# Altium footprint library Display.PcbLib: 3 footprints
Each footprint in its own frame and in the unit in brackets; x right, y up, seen from the top. Pads: shape width x height; smd on the part's side, far side on the other; paste and mask are expansions set on the pad; w line width, h text height; cw(c..) or ccw(c..) is an arc to the next point about the centre after c.
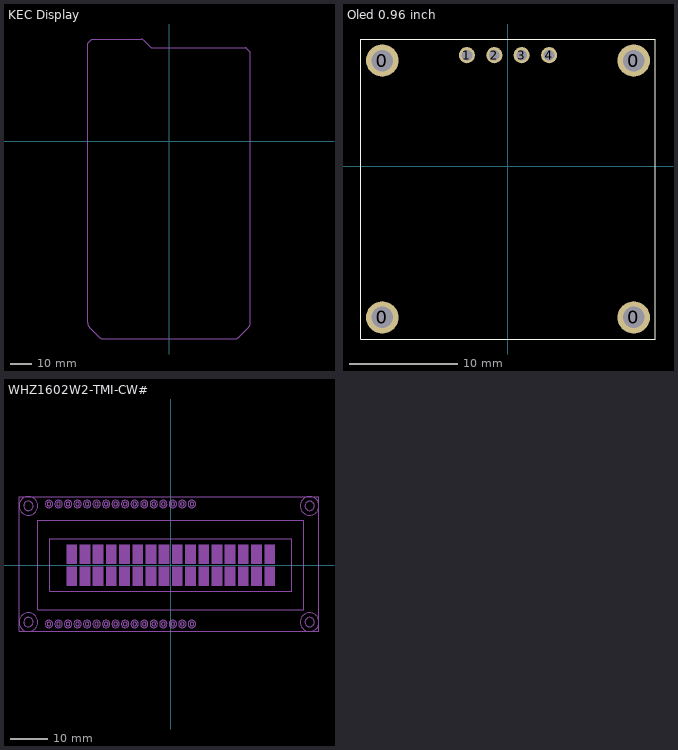
[diagram p0: the footprints below, top view; thin cyan lines are the x and y axes]

## KEC Display [mm]
top_mekanik_malzeme (Mech5):
  lines w0.2: 38.55,-85.8 cw(c35.484,-85.8) 37.652,-87.968 33.964,-91.656 32.968,-92.652 cw(c30.8,-90.484) 30.8,-93.55 -30.8,-93.55 cw(c-30.8,-90.484) -32.968,-92.652 -37.652,-87.968 cw(c-35.484,-85.8) -38.55,-85.8 -38.55,46.523 -36.55,48.523 ; 38.55,-85.747 38.55,42.22 36.55,44.22 ccw(c36.182,43.852) 36.182,44.372 -7.868,44.372 cw(c-7.868,45.83) -8.899,44.799 -12.313,48.213 ccw(c-13.063,47.462) -13.063,48.524 -36.55,48.524 ; -36.55,48.523 ccw(c-36.55,48.524) -36.55,48.523
3D body "KE2_LCD.step": height 24.5, standoff 10.23, extent -38.55,-93.484 39.651,48.524

## Oled 0.96 inch [mm]
pads (8):
  round 3 hole 2: 0(-11.65,-14) 0(-11.65,9.8) 0(11.65,-14) 0(11.65,9.8)
  round 1.5 hole 1: 1(-3.81,10.3) 2(-1.27,10.3) 3(1.27,10.3) 4(3.81,10.3)
Top Overlay:
  lines w0.1: -13.65,-16 -13.65,11.8 13.65,11.8 13.65,-16 -13.65,-16
3D body "OLED 128x64 0 96 inch.step": height 5.35, standoff -6.55, extent -13.65,-16 13.65,11.8

## WHZ1602W2-TMI-CW# [mm]
top_mekanik_malzeme (Mech5):
  circle w0.1: c-37.95,15.825 r2.5
  circle w0.1: c5.65,16.325 r0.5
  circle w0.1: c3.11,16.325 r0.5
  circle w0.1: c0.57,16.325 r0.5
  circle w0.1: c-1.97,16.325 r0.5
  circle w0.1: c-4.51,16.325 r0.5
  circle w0.1: c-7.05,16.325 r0.5
  circle w0.1: c-9.59,16.325 r0.5
  circle w0.1: c-12.13,16.325 r0.5
  circle w0.1: c-14.67,16.325 r0.5
  circle w0.1: c-17.21,16.325 r0.5
  circle w0.1: c-19.75,16.325 r0.5
  circle w0.1: c-22.29,16.325 r0.5
  circle w0.1: c-24.83,16.325 r0.5
  circle w0.1: c-27.37,16.325 r0.5
  circle w0.1: c-29.91,16.325 r0.5
  circle w0.1: c-32.45,16.325 r0.5
  circle w0.1: c-37.95,15.825 r1.25
  circle w0.1: c37.05,15.825 r1.25
  circle w0.1: c37.05,15.825 r2.5
  circle w0.1: c37.05,-15.175 r1.25
  circle w0.1: c37.05,-15.175 r2.5
  circle w0.1: c-37.95,-15.175 r1.25
  circle w0.1: c-37.95,-15.175 r2.5
  circle w0.1: c-32.45,-15.675 r0.5
  circle w0.1: c-29.91,-15.675 r0.5
  circle w0.1: c-27.37,-15.675 r0.5
  circle w0.1: c-24.83,-15.675 r0.5
  circle w0.1: c-22.29,-15.675 r0.5
  circle w0.1: c-19.75,-15.675 r0.5
  circle w0.1: c-17.21,-15.675 r0.5
  circle w0.1: c-14.67,-15.675 r0.5
  circle w0.1: c-12.13,-15.675 r0.5
  circle w0.1: c-9.59,-15.675 r0.5
  circle w0.1: c-7.05,-15.675 r0.5
  circle w0.1: c-4.51,-15.675 r0.5
  circle w0.1: c-1.97,-15.675 r0.5
  circle w0.1: c0.57,-15.675 r0.5
  circle w0.1: c3.11,-15.675 r0.5
  circle w0.1: c5.65,-15.675 r0.5
  circle w0.1: c-32.45,16.325 r1
  circle w0.1: c-29.91,16.325 r1
  circle w0.1: c-27.37,16.325 r1
  circle w0.1: c-24.83,16.325 r1
  circle w0.1: c-22.29,16.325 r1
  circle w0.1: c-19.75,16.325 r1
  circle w0.1: c-17.21,16.325 r1
  circle w0.1: c-14.67,16.325 r1
  circle w0.1: c-12.13,16.325 r1
  circle w0.1: c-9.59,16.325 r1
  circle w0.1: c-7.05,16.325 r1
  circle w0.1: c-4.51,16.325 r1
  circle w0.1: c-1.97,16.325 r1
  circle w0.1: c0.57,16.325 r1
  circle w0.1: c3.11,16.325 r1
  circle w0.1: c5.65,16.325 r1
  circle w0.1: c-32.45,-15.675 r1
  circle w0.1: c-29.91,-15.675 r1
  circle w0.1: c-27.37,-15.675 r1
  circle w0.1: c-24.83,-15.675 r1
  circle w0.1: c-22.29,-15.675 r1
  circle w0.1: c-19.75,-15.675 r1
  circle w0.1: c-17.21,-15.675 r1
  circle w0.1: c-14.67,-15.675 r1
  circle w0.1: c-12.13,-15.675 r1
  circle w0.1: c-9.59,-15.675 r1
  circle w0.1: c-7.05,-15.675 r1
  circle w0.1: c-4.51,-15.675 r1
  circle w0.1: c-1.97,-15.675 r1
  circle w0.1: c0.57,-15.675 r1
  circle w0.1: c3.11,-15.675 r1
  circle w0.1: c5.65,-15.675 r1
  rectangle: 14.39,-5.475 17.29,-0.325
  rectangle: 21.43,-5.475 24.33,-0.325
  rectangle: -3.21,-5.475 -0.31,-0.325
  rectangle: -10.25,-5.475 -7.35,-0.325
  rectangle: -17.29,-5.475 -14.39,-0.325
  rectangle: -27.85,-5.475 -24.95,-0.325
  rectangle: -3.21,0.375 -0.31,5.525
  rectangle: 21.43,0.375 24.33,5.525
  rectangle: 14.39,0.375 17.29,5.525
  rectangle: -27.85,0.375 -24.95,5.525
  rectangle: -17.29,0.375 -14.39,5.525
  rectangle: -10.25,0.375 -7.35,5.525
  rectangle: 24.95,-5.475 27.85,-0.325
  rectangle: 17.91,-5.475 20.81,-0.325
  rectangle: 7.35,-5.475 10.25,-0.325
  rectangle: 10.87,-5.475 13.77,-0.325
  rectangle: 0.31,-5.475 3.21,-0.325
  rectangle: 3.83,-5.475 6.73,-0.325
  rectangle: -6.73,-5.475 -3.83,-0.325
  rectangle: -13.77,-5.475 -10.87,-0.325
  rectangle: -20.81,-5.475 -17.91,-0.325
  rectangle: -24.33,-5.475 -21.43,-0.325
  rectangle: 24.95,0.375 27.85,5.525
  rectangle: 17.91,0.375 20.81,5.525
  rectangle: 10.87,0.375 13.77,5.525
  rectangle: 7.35,0.375 10.25,5.525
  rectangle: 3.83,0.375 6.73,5.525
  rectangle: 0.31,0.375 3.21,5.525
  rectangle: -6.73,0.375 -3.83,5.525
  rectangle: -13.77,0.375 -10.87,5.525
  rectangle: -24.33,0.375 -21.43,5.525
  rectangle: -20.81,0.375 -17.91,5.525
  lines w0.2: -40.45,-17.675 39.55,-17.675 39.55,18.325 -40.45,18.325 -40.45,-17.675 ; -35.5,-11.925 35.5,-11.925 35.5,11.975 -35.5,11.975 -35.5,-11.925 ; -32.25,-6.975 32.25,-6.975 32.25,7.025 -32.25,7.025 -32.25,-6.975
3D body "WHZ1602W2-TMI-CW v12.step": height 18.2, standoff 11, extent -40.45,-17.675 39.55,18.325